# EAGLE library part DFPLAYER (library buksir)
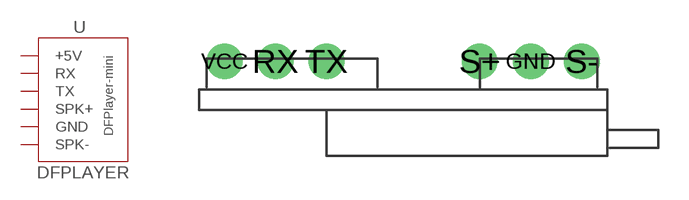
[diagram p4: symbol with the pads of MP3-PLAYER; footprint MP3-PLAYER]

Designator prefix -

## DFPLAYER  [MP3-PLAYER]
GND  GND
RX  RX
S+  SPK+
S-  SPK-
TX  TX
VCC  +5V

## Footprint MP3-PLAYER (pad centres in mm)
drill 0.9 pad 1.778: GND 16.51,1.905; RX 3.81,1.905; S+ 13.97,1.905; S- 19.05,1.905; TX 6.35,1.905; VCC 1.27,1.905